# EAGLE library part TPS5410 (library Texas Instruments)
1-A, WIDE INPUT RANGE, STEP-DOWN SWIFT? CONVERTER Source: U7 Texas TPS5410 Step Down Converter.pdf
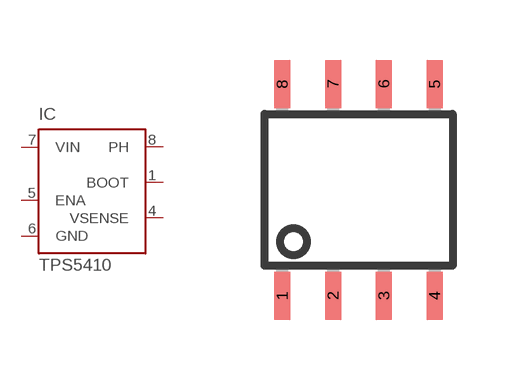
[diagram p64: symbol with the pads of D_R-PDSO-G08; footprint D_R-PDSO-G08]

Designator prefix IC

## TPS5410 (MPN: TPS5410DR; OC_FARNELL: 1329596; OC_NEWARK: 18M3223)  [D_R-PDSO-G08]
1  BOOT  out
4  VSENSE  in
5  ENA  in
6  GND  pwr
7  VIN  in
8  PH  out

## Footprint D_R-PDSO-G08 (pad centres in mm)
PLASTIC SMALL-OUTLINE PACKAGE SO 14 JEDEC MS-012, D Type Source: www.ti.com/.. slvs087l.pdf
smd 0.4 x 1.2: 1 -1.905,-2.65; 2 -0.635,-2.65; 3 0.635,-2.65; 4 1.905,-2.65; 5 1.905,2.65; 6 0.635,2.65; 7 -0.635,2.65; 8 -1.905,2.65